# Altium schematic symbol library CH340G_VCC.SCHLIB: 12 symbols
Pins are listed as number, name and electrical type; pins without a type are passive.

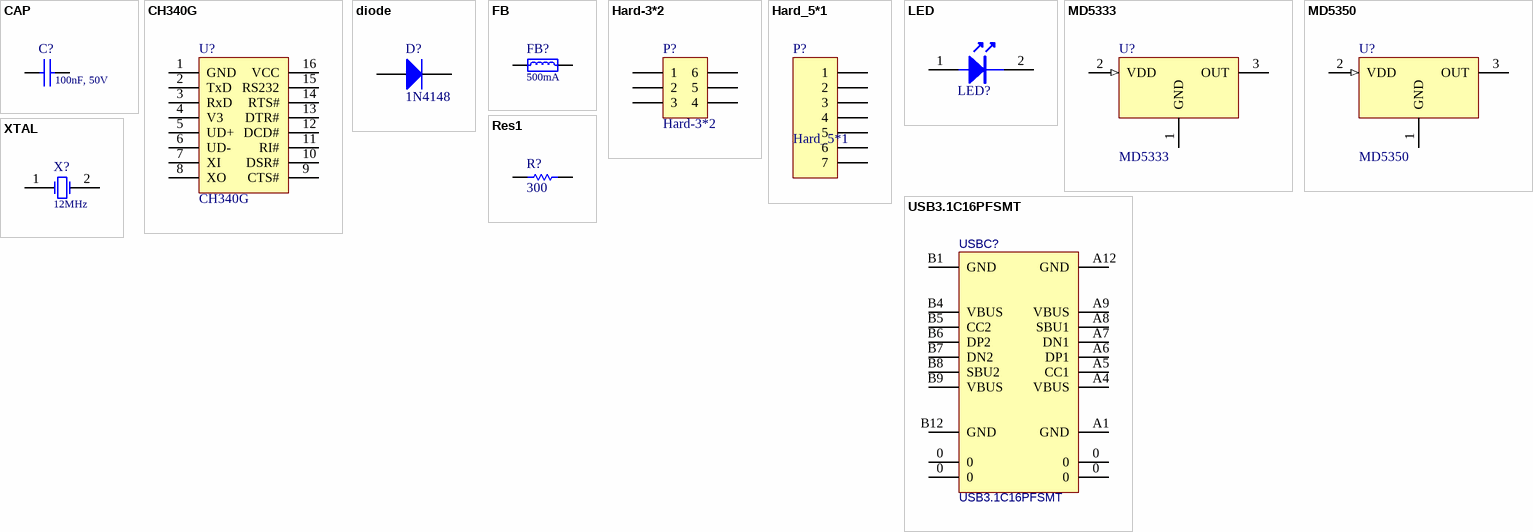
[diagram p0: symbols CAP to XTAL]

## CAP
designator C?, comment value 100nF, 50V  (hidden comment: CC0603KRX7R9BB104)
Capacitor; Manufacturer: 国巨; PartNo: 11002050002
footprint 0402 (Footprint not found)
footprint C0603_QB
pins: 1, 2

## CH340G
designator U?
footprint SOP16N_N (10.3*7*1.8mm（长宽高）)
pins: 1 GND, 2 TxD, 3 RxD, 4 V3, 5 UD+, 6 UD-, 7 XI, 8 XO, 9 CTS#, 10 DSR#, 11 RI#, 12 DCD#, 13 DTR#, 14 RTS#, 15 RS232, 16 VCC

## diode
designator D?, comment 1N4148
footprint SOD_523_QB
pins: 1 A, 2 K

## FB
designator FB?, comment value 500mA  (hidden comment: CBG160808U182)
Inductor; Manufacturer: HOLDER; PartNo_new: 11014060007
footprint FB0603_QB (Footprint not found)
pins: 1, 2

## Hard-3*2
designator P?
footprint HDR2.54-LI-2x3P (双排排针，3x2脚)
pins: 1, 2, 3, 4, 5, 6

## Hard_5*1
designator P?
footprint HDR2.54-LI-4P (排针，4脚)
pins: 1, 2, 3, 4, 5, 6, 7

## LED
designator LED?, comment 19-217/R6C-AL1M2VY/3T  (value not drawn)
Manufacturer: 亿光; PartNo: 11004030004; Value: 5V，25mA，红色，0603
footprint LED_SMT_QB (Footprint not found)
pins: 1 A, 2 K

## MD5333
designator U?, comment value MD5333  (hidden comment: MD5333(SOT-89))
LDO; Manufacturer: 明达微; PartNo: 11001090038
footprint SOT_89_QB
pins: 1 GND, 2 VDD (in), 3 OUT (power)

## MD5350
designator U?, comment value MD5350  (hidden comment: MD5350(SOT-89))
LDO; Manufacturer: 明达微; PartNo: 11001090038
footprint SOT_89_QB
pins: 1 GND, 2 VDD (in), 3 OUT (power)

## Res1
designator R?, comment value 300  (hidden comment: RC0603JR-07470RL)
Resistor; Manufacturer: 国巨; PartNo: 11003020066
footprint AXIAL-0.3
simulation model RESISTOR (Resistor)
signal-integrity model Res1
footprint 0603 (Model Description)
footprint 0805 (Footprint not found)
footprint 0603 (Footprint not found)
footprint C0603
footprint C0603_muRata
footprint R0603_QB (Footprint not found)
footprint 0603_3D
footprint C0603_QB
pins: 1, 2

## USB3.1C16PFSMT
designator USBC?
footprint TYPE-C-USB-17
pins: 0, 0, 0, 0, A1 GND, A4 VBUS, A5 CC1, A6 DP1, A7 DN1, A8 SBU1, A9 VBUS, A12 GND, B1 GND, B4 VBUS, B5 CC2, B6 DP2, B7 DN2, B8 SBU2, B9 VBUS, B12 GND

## XTAL
designator X?, comment 12MHz
Crystal Oscillator; Manufacturer: EPSON; PartNo: 11012040004; Value: FC-135,32.768KHz,12.5pF,20ppm
footprint ESB3.68640F20M23_QB
pins: 1 OSC1, 2 OSC2